# EAGLE library part B8B-PH (library con-jst-ph)
JST PH series header 2.00mm pitch disconnectable crimp style connectors, vertical (side entry type), 8 pins
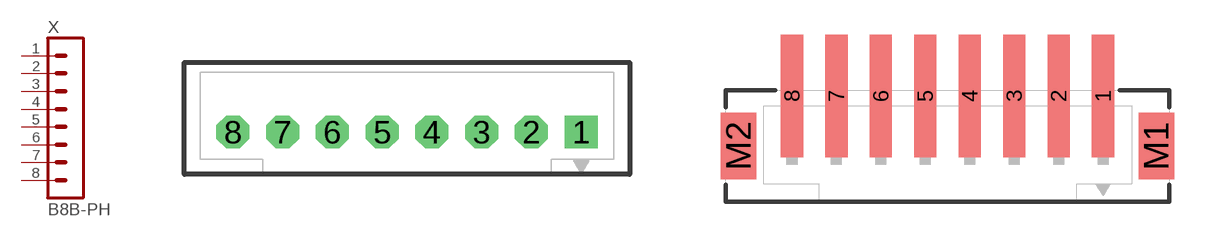
[diagram p2: symbol with the pads of B8B-PH-KL-S; footprints B8B-PH-KL-S, B8B-PH-SM4-TB]

Designator prefix X

## B8B-PH-KL-S  [B8B-PH-KL-S]
1  1  pas
2  2  pas
3  3  pas
4  4  pas
5  5  pas
6  6  pas
7  7  pas
8  8  pas

## B8B-PH-SM4-TB  [B8B-PH-SM4-TB]
Pads as for B8B-PH-KL-S

## Footprint B8B-PH-KL-S (pad centres in mm)
JST PH series header 2.00mm pitch disconnectable crimp style connectors, through-hole vertical (top entry type), 8 pins
drill 0.7 pad 1.321 square: 1 7,0
drill 0.7 pad 1.321 octagon: 2 5,0; 3 3,0; 4 1,0; 5 -1,0; 6 -3,0; 7 -5,0; 8 -7,0

## Footprint B8B-PH-SM4-TB (pad centres in mm)
JST PH series header 2.00mm pitch disconnectable crimp style connectors, SMT vertical (top entry type), 8 pins
smd 1 x 5.5: 1 7,0; 2 5,0; 3 3,0; 4 1,0; 5 -1,0; 6 -3,0; 7 -5,0; 8 -7,0
smd 1.6 x 3: M1 9.4,-2.25; M2 -9.4,-2.25